# Altium footprint library GCMPrototipo.PcbLib: 31 footprints (part 1 of 2)
Each footprint in its own frame and in the unit in brackets; x right, y up, seen from the top. Pads: shape width x height; smd on the part's side, far side on the other; paste and mask are expansions set on the pad; w line width, h text height; cw(c..) or ccw(c..) is an arc to the next point about the centre after c.
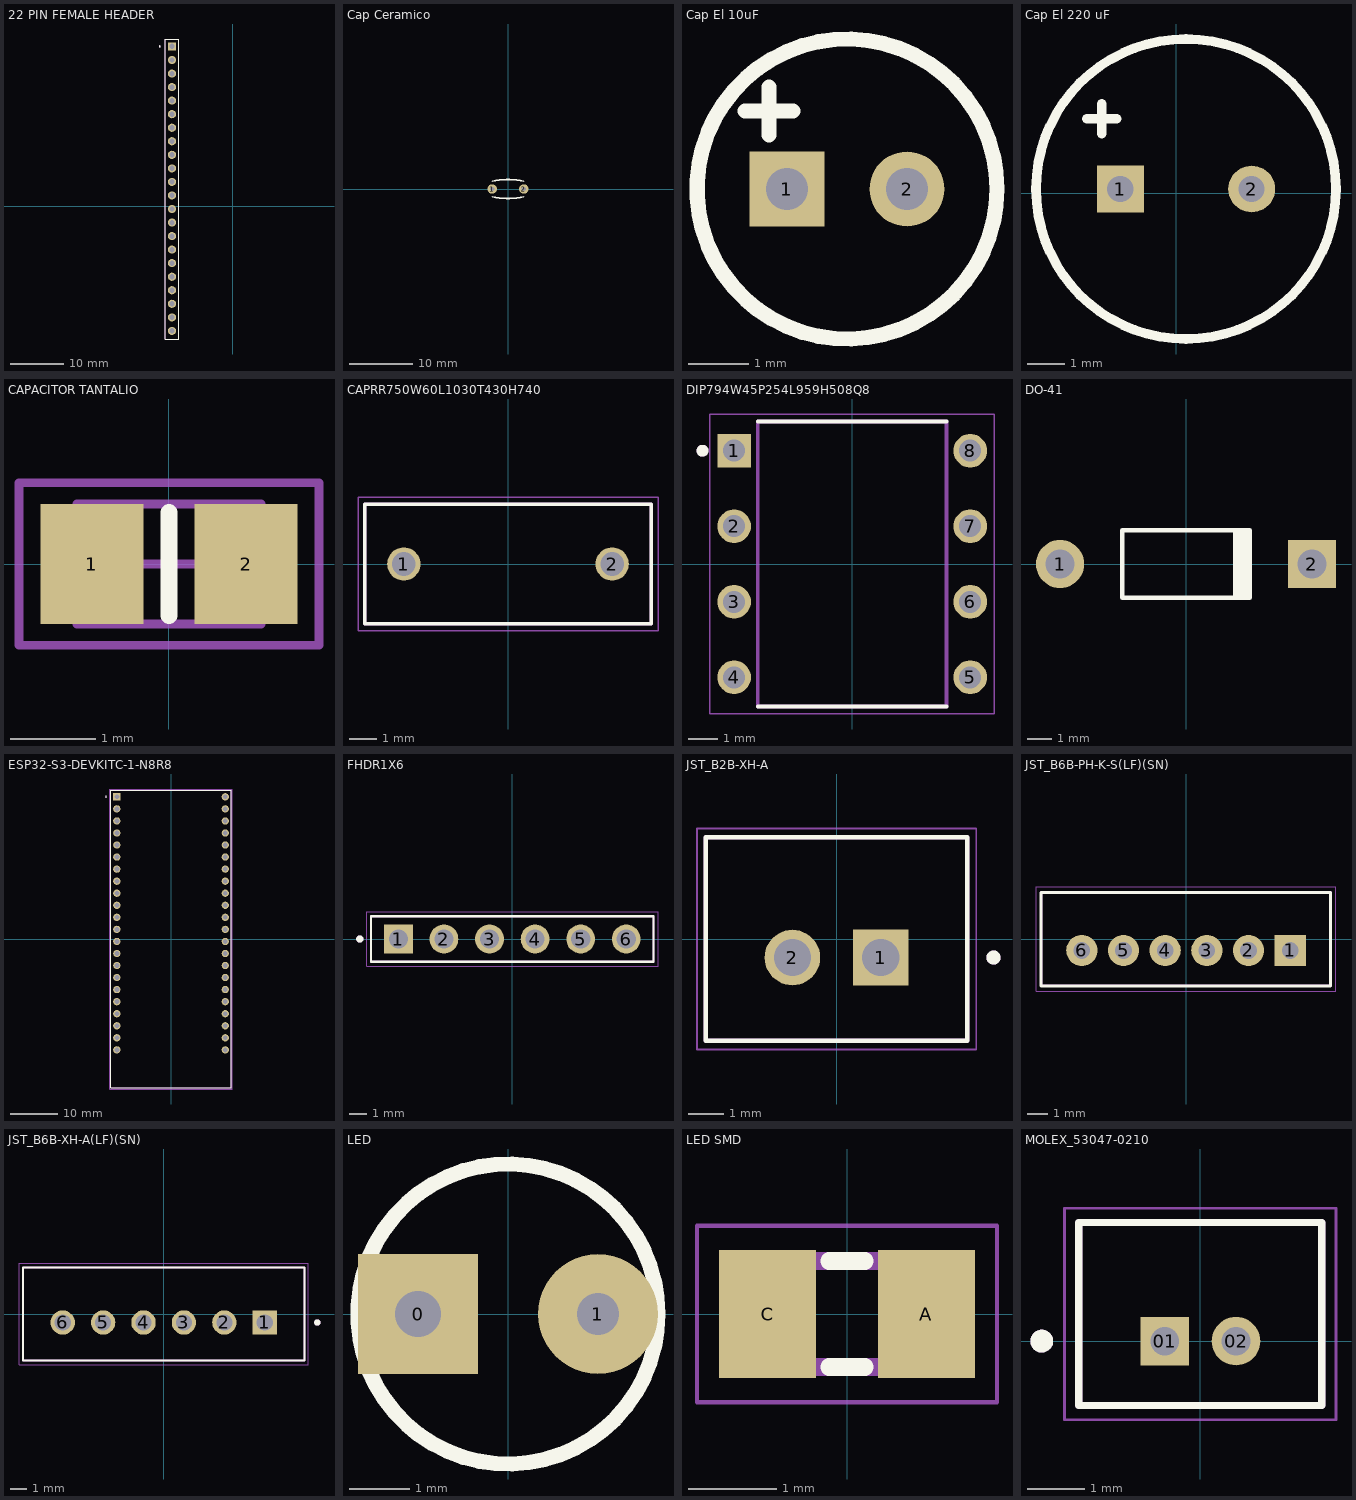
[diagram p0: the footprints below, top view; thin cyan lines are the x and y axes]

## 22 PIN FEMALE HEADER [mm]
pads (22):
  rect 1.53x1.53 / inner round 1.53 / far side rect 1.53x1.53 hole 1.02: J1_1(-11.43,29.97)
  round 1.53 hole 1.02: J1_2(-11.43,27.43) J1_3(-11.43,24.89) J1_4(-11.43,22.35) J1_5(-11.43,19.81) J1_6(-11.43,17.27) J1_7(-11.43,14.73) J1_8(-11.43,12.19) J1_9(-11.43,9.65) J1_10(-11.43,7.11) J1_11(-11.43,4.57) J1_12(-11.43,2.03) J1_13(-11.43,-0.51) J1_14(-11.43,-3.05) J1_15(-11.43,-5.59) J1_16(-11.43,-8.13) J1_17(-11.43,-10.67) J1_18(-11.43,-13.21) J1_19(-11.43,-15.75) J1_20(-11.43,-18.29) J1_21(-11.43,-20.83) J1_22(-11.43,-23.37)
Top Overlay:
  circle w0.2: c-13.716,29.972 r0.1
  lines w0.127: -12.7,-24.892 -12.7,31.37 -10.16,31.37 -10.16,-24.892 -12.7,-24.892
Mechanical 13:
  circle w0.2: c-13.716,29.972 r0.1
  lines w0.127: -12.7,-24.892 -12.7,31.37 ; -10.16,-24.892 -10.16,31.37

## Cap Ceramico [mm]
pads (2):
  round 1.5 hole 0.7: 1(-2.5,0) 2(2.5,0)
Top Overlay:
  lines w0.254: -2.5,-1.25 ccw(c0,11.125) 2.5,-1.25 ; -2.5,1.25 cw(c0,-11.125) 2.5,1.25

## Cap El 10uF [mm]
pads (2):
  rect 1.25x1.25 hole 0.7: 1(61.5,-62.5)
  round 1.25 hole 0.7: 2(63.5,-62.5)
Top Overlay:
  circle w0.254: c62.5,-62.5 r2.5
  lines w0.254: 60.8,-61.2 61.6,-61.2 ; 61.2,-61.6 61.2,-60.8
3D body: height 1.27, standoff 0, extent 60.01,-64.98 65.01,-59.986

## Cap El 220 uF [mm]
pads (2):
  rect 1.25x1.25 hole 0.7: 1(-1.49,0.11)
  round 1.25 hole 0.7: 2(2.01,0.11)
Top Overlay:
  circle w0.254: c0.26,0.11 r4
  lines w0.254: -2.39,1.98 -1.59,1.98 ; -1.99,1.58 -1.99,2.38
3D body: height 1.27, standoff 0, extent -3.71,-3.947 4.29,4.047

## CAPACITOR TANTALIO [mm]
pads (2):
  rect 1.2x1.4 smd: 1(-0.9,0) 2(0.9,0)
Top Overlay:
  lines w0.2: 0,-0.6 0,0.6
Mechanical 13:
  lines w0.1: -1.075,-0.7 -1.075,0.7 1.075,0.7 1.075,-0.7 -1.075,-0.7
Mechanical 15:
  lines w0.1: -0.5,0 0.5,0 ; 0,-0.5 0,0.5 ; -1.75,-0.95 -1.75,0.95 1.75,0.95 1.75,-0.95 -1.75,-0.95
3D body "T494A106M010AT.STEP": height 1.8, standoff 0, extent -1.588,-0.788 1.612,0.812

## CAPRR750W60L1030T430H740 [mm]
pads (2):
  round 1.2 hole 0.85: 1(-3.75,0) 2(3.75,0)
Top Overlay:
  lines w0.127: -5.15,-2.15 -5.15,2.15 5.15,2.15 5.15,-2.15 -5.15,-2.15
Mechanical 13:
  lines w0.127: -5.15,-2.15 5.15,-2.15 5.15,2.15 -5.15,2.15 -5.15,-2.15
Mechanical 15:
  lines w0.05: -5.4,-2.4 5.4,-2.4 5.4,2.4 -5.4,2.4 -5.4,-2.4

## DIP794W45P254L959H508Q8 [mm]
height 5.08
pads (8):
  rect 1.13x1.13 / inner round 1.13 / far side rect 1.13x1.13 hole 0.74 mask+0.102: 1(-3.97,3.81)
  round 1.13 hole 0.74 mask+0.102: 2(-3.97,1.27) 3(-3.97,-1.27) 4(-3.97,-3.81) 5(3.97,-3.81) 6(3.97,-1.27) 7(3.97,1.27) 8(3.97,3.81)
Top Overlay:
  circle w0.2: c-5.035,3.81 r0.1
  lines w0.127: -3.175,-4.795 3.175,-4.795 ; -3.175,4.795 3.175,4.795
Mechanical 13:
  circle w0.2: c-5.035,3.81 r0.1
  lines w0.127: -3.175,-4.795 3.175,-4.795 3.175,4.795 -3.175,4.795 -3.175,-4.795
Mechanical 15:
  lines w0.05: -4.785,-5.045 4.785,-5.045 4.785,5.045 -4.785,5.045 -4.785,-5.045
3D body "step_temp.STEP": height 5.08, standoff -3.18, extent -4.095,-4.795 4.095,4.795

## DO-41 [mm] "Diode, Axial; Body 5.2 x 2.7 mm (LxDia. max), Lead Dia. 0.86 mm (max)"
height 2.8
pads (2):
  round 2 hole 1.2: 1(-5.23,0)
  rect 2x2 hole 1.2: 2(5.23,0)
Top Overlay:
  rectangle: 1.95,-1.4 2.75,1.4
  lines w0.2: 2.65,-1.4 -2.65,-1.4 -2.65,1.4 2.65,1.4

## ESP32-S3-DEVKITC-1-N8R8 [mm]
pads (44):
  rect 1.53x1.53 / inner round 1.53 / far side rect 1.53x1.53 hole 1.02: J1_1(-11.43,29.97)
  round 1.53 hole 1.02: J1_2(-11.43,27.43) J1_3(-11.43,24.89) J1_4(-11.43,22.35) J1_5(-11.43,19.81) J1_6(-11.43,17.27) J1_7(-11.43,14.73) J1_8(-11.43,12.19) J1_9(-11.43,9.65) J1_10(-11.43,7.11) J1_11(-11.43,4.57) J1_12(-11.43,2.03) J1_13(-11.43,-0.51) J1_14(-11.43,-3.05) J1_15(-11.43,-5.59) J1_16(-11.43,-8.13) J1_17(-11.43,-10.67) J1_18(-11.43,-13.21) J1_19(-11.43,-15.75) J1_20(-11.43,-18.29) J1_21(-11.43,-20.83) J1_22(-11.43,-23.37) J3_1(11.43,29.97) J3_2(11.43,27.43) J3_3(11.43,24.89) J3_4(11.43,22.35) J3_5(11.43,19.81) J3_6(11.43,17.27) J3_7(11.43,14.73) J3_8(11.43,12.19) J3_9(11.43,9.65) J3_10(11.43,7.11) J3_11(11.43,4.57) J3_12(11.43,2.03) J3_13(11.43,-0.51) J3_14(11.43,-3.05) J3_15(11.43,-5.59) J3_16(11.43,-8.13) J3_17(11.43,-10.67) J3_18(11.43,-13.21) J3_19(11.43,-15.75) J3_20(11.43,-18.29) J3_21(11.43,-20.83) J3_22(11.43,-23.37)
Top Overlay:
  circle w0.2: c-13.716,29.972 r0.1
  lines w0.127: -12.7,-31.37 -12.7,31.37 12.7,31.37 12.7,-31.37 -12.7,-31.37
Mechanical 13:
  circle w0.2: c-13.716,29.972 r0.1
  lines w0.127: -12.7,-31.37 -12.7,31.37 12.7,31.37 12.7,-31.37 -12.7,-31.37
Mechanical 15:
  lines w0.05: -12.95,-31.62 -12.95,31.62 12.95,31.62 12.95,-31.62 -12.95,-31.62
3D body "step_temp.STEP": height 7.39, standoff -6, extent -12.7,-31.96 12.7,37.68

## FHDR1X6 [mm]
pads (6):
  rect 1.605x1.605 / inner round 1.605 / far side rect 1.605x1.605 hole 1.07: 1(-6.35,0)
  round 1.605 hole 1.07: 2(-3.81,0) 3(-1.27,0) 4(1.27,0) 5(3.81,0) 6(6.35,0)
Top Overlay:
  circle w0.2: c-8.5,0 r0.1
  lines w0.127: -7.87,-1.27 -7.87,1.27 7.87,1.27 7.87,-1.27 -7.87,-1.27
Mechanical 13:
  circle w0.2: c-8.5,0 r0.1
  lines w0.127: -7.87,-1.27 -7.87,1.27 7.87,1.27 7.87,-1.27 -7.87,-1.27
Mechanical 15:
  lines w0.05: -8.12,-1.52 -8.12,1.52 8.12,1.52 8.12,-1.52 -8.12,-1.52
3D body "step_temp.STEP": height 8.51, standoff -3.2, extent -7.874,-1.27 7.874,1.27

## JST_B2B-XH-A [mm]
height 7
pads (2):
  rect 1.575x1.575 / inner round 1.575 / far side rect 1.575x1.575 hole 1.05: 1(1.25,-0.525)
  round 1.575 hole 1.05: 2(-1.25,-0.525)
Top Overlay:
  circle w0.2: c4.44,-0.525 r0.1
  lines w0.127: -3.7,-2.875 3.7,-2.875 3.7,2.875 -3.7,2.875 -3.7,-2.875
Mechanical 13:
  circle w0.2: c4.44,-0.525 r0.1
  lines w0.127: -3.7,-2.875 3.7,-2.875 3.7,2.875 -3.7,2.875 -3.7,-2.875
Mechanical 15:
  lines w0.05: -3.95,-3.125 -3.95,3.125 3.95,3.125 3.95,-3.125 -3.95,-3.125

## JST_B6B-PH-K-S(LF)(SN) [mm]
height 6
pads (6):
  rect 1.5x1.5 hole 0.8: 1(5,-0.55)
  round 1.5 hole 0.8: 2(3,-0.55) 3(1,-0.55) 4(-1,-0.55) 5(-3,-0.55) 6(-5,-0.55)
Top Overlay:
  lines w0.153: -6.96,-2.261 6.934,-2.261 6.934,2.235 -6.96,2.235 -6.96,-2.261
Mechanical 13:
  lines w0.127: -6.95,-2.25 6.95,-2.25 6.95,2.25 -6.95,2.25 -6.95,-2.25
Mechanical 15:
  lines w0.05: -7.2,-2.5 7.2,-2.5 7.2,2.5 -7.2,2.5 -7.2,-2.5
3D body "B6B-PH-K-S-LF--SN---3DModel-STEP-56544.STEP": height 6, standoff -3.4, extent -6.95,-2.25 6.95,2.25

## JST_B6B-XH-A(LF)(SN) [mm]
height 7
pads (6):
  rect 1.508x1.508 / inner round 1.508 / far side rect 1.508x1.508 hole 1: 1(6.25,-0.525)
  round 1.508 hole 1: 2(3.75,-0.525) 3(1.25,-0.525) 4(-1.25,-0.525) 5(-3.75,-0.525) 6(-6.25,-0.525)
Top Overlay:
  circle w0.2: c9.5,-0.525 r0.1
  lines w0.127: -8.7,-2.875 8.7,-2.875 8.7,2.875 -8.7,2.875 -8.7,-2.875
Mechanical 13:
  circle w0.2: c9.5,-0.525 r0.1
  lines w0.127: -8.7,-2.875 8.7,-2.875 8.7,2.875 -8.7,2.875 -8.7,-2.875
Mechanical 15:
  lines w0.05: -8.95,-3.125 8.95,-3.125 8.95,3.125 -8.95,3.125 -8.95,-3.125
3D body "step_temp.STEP": height 7, standoff -3.4, extent -8.7,-2.875 8.7,2.875

## LED [mm]
pads (2):
  rect 2x2 hole 0.762: 0(-1.5,0)
  round 2 hole 0.7: 1(1.5,0)
Top Overlay:
  circle w0.254: c0,0 r2.5
3D body "WP7113LSRD.STEP": height 9.6, standoff -26, extent -2.979,-2.921 2.471,2.979

## LED SMD [mm] "0805"
pads (2):
  rect 1.1x1.45 smd: A(0.9,0) C(-0.9,0)
Top Overlay:
  lines w0.2: -0.2,-0.6 0.2,-0.6 ; -0.2,0.6 0.2,0.6
Mechanical 13:
  region: 1,-0.6 0.5,-0.6 0.5,0.6 1,0.6
  region: -0.5,-0.6 -1,-0.6 -1,0.6 -0.5,0.6
  lines w0.2: -1,-0.6 -1,0.6 1,0.6 1,-0.6 -1,-0.6
Mechanical 15:
  lines w0.05: -1.7,-1 -1.7,1 1.7,1 1.7,-1 -1.7,-1
3D body "597-5311-402F.STEP": height 0.7, standoff 0, extent -0.949,-0.65 1.051,0.6

## MOLEX_53047-0210 [mm]
pads (2):
  rect 0.85x0.85 / inner round 0.85 / far side rect 0.85x0.85 hole 0.5: 01(-0.625,0)
  round 0.85 hole 0.5: 02(0.625,0)
Top Overlay:
  circle w0.2: c-2.775,0 r0.1
  lines w0.127: -2.125,-1.125 -2.125,2.075 2.125,2.075 2.125,-1.125 -2.125,-1.125
Mechanical 13:
  circle w0.2: c-2.775,0 r0.1
  lines w0.127: -2.125,-1.125 -2.125,2.075 2.125,2.075 2.125,-1.125 -2.125,-1.125
Mechanical 15:
  lines w0.05: -2.375,-1.375 -2.375,2.325 2.375,2.325 2.375,-1.375 -2.375,-1.375